# EAGLE library part UCC27324D (library UCC27324D)
DUAL 4-A PEAK HIGH SPEED LOW- SIDE POWER MOSFET DRIVERS
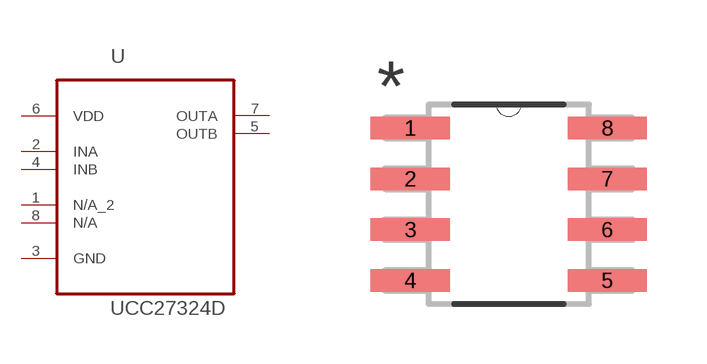
[diagram p0: symbol with the pads of SOIC127P600X175-8N; footprint SOIC127P600X175-8N]

Designator prefix U

## UCC27324D  [SOIC127P600X175-8N]
1  N/A_2  nc
2  INA  in
3  GND  pas
4  INB  in
5  OUTB  out
6  VDD  pwr
7  OUTA  out
8  N/A  nc

## Footprint SOIC127P600X175-8N (pad centres in mm)
smd 1.981 x 0.559: 1 -2.464,1.905; 2 -2.464,0.635; 3 -2.464,-0.635; 4 -2.464,-1.905; 5 2.464,-1.905; 6 2.464,-0.635; 7 2.464,0.635; 8 2.464,1.905